# Altium integrated library Microchip PIC16 Part 1.IntLib: 1800 symbols (part 54 of 93)
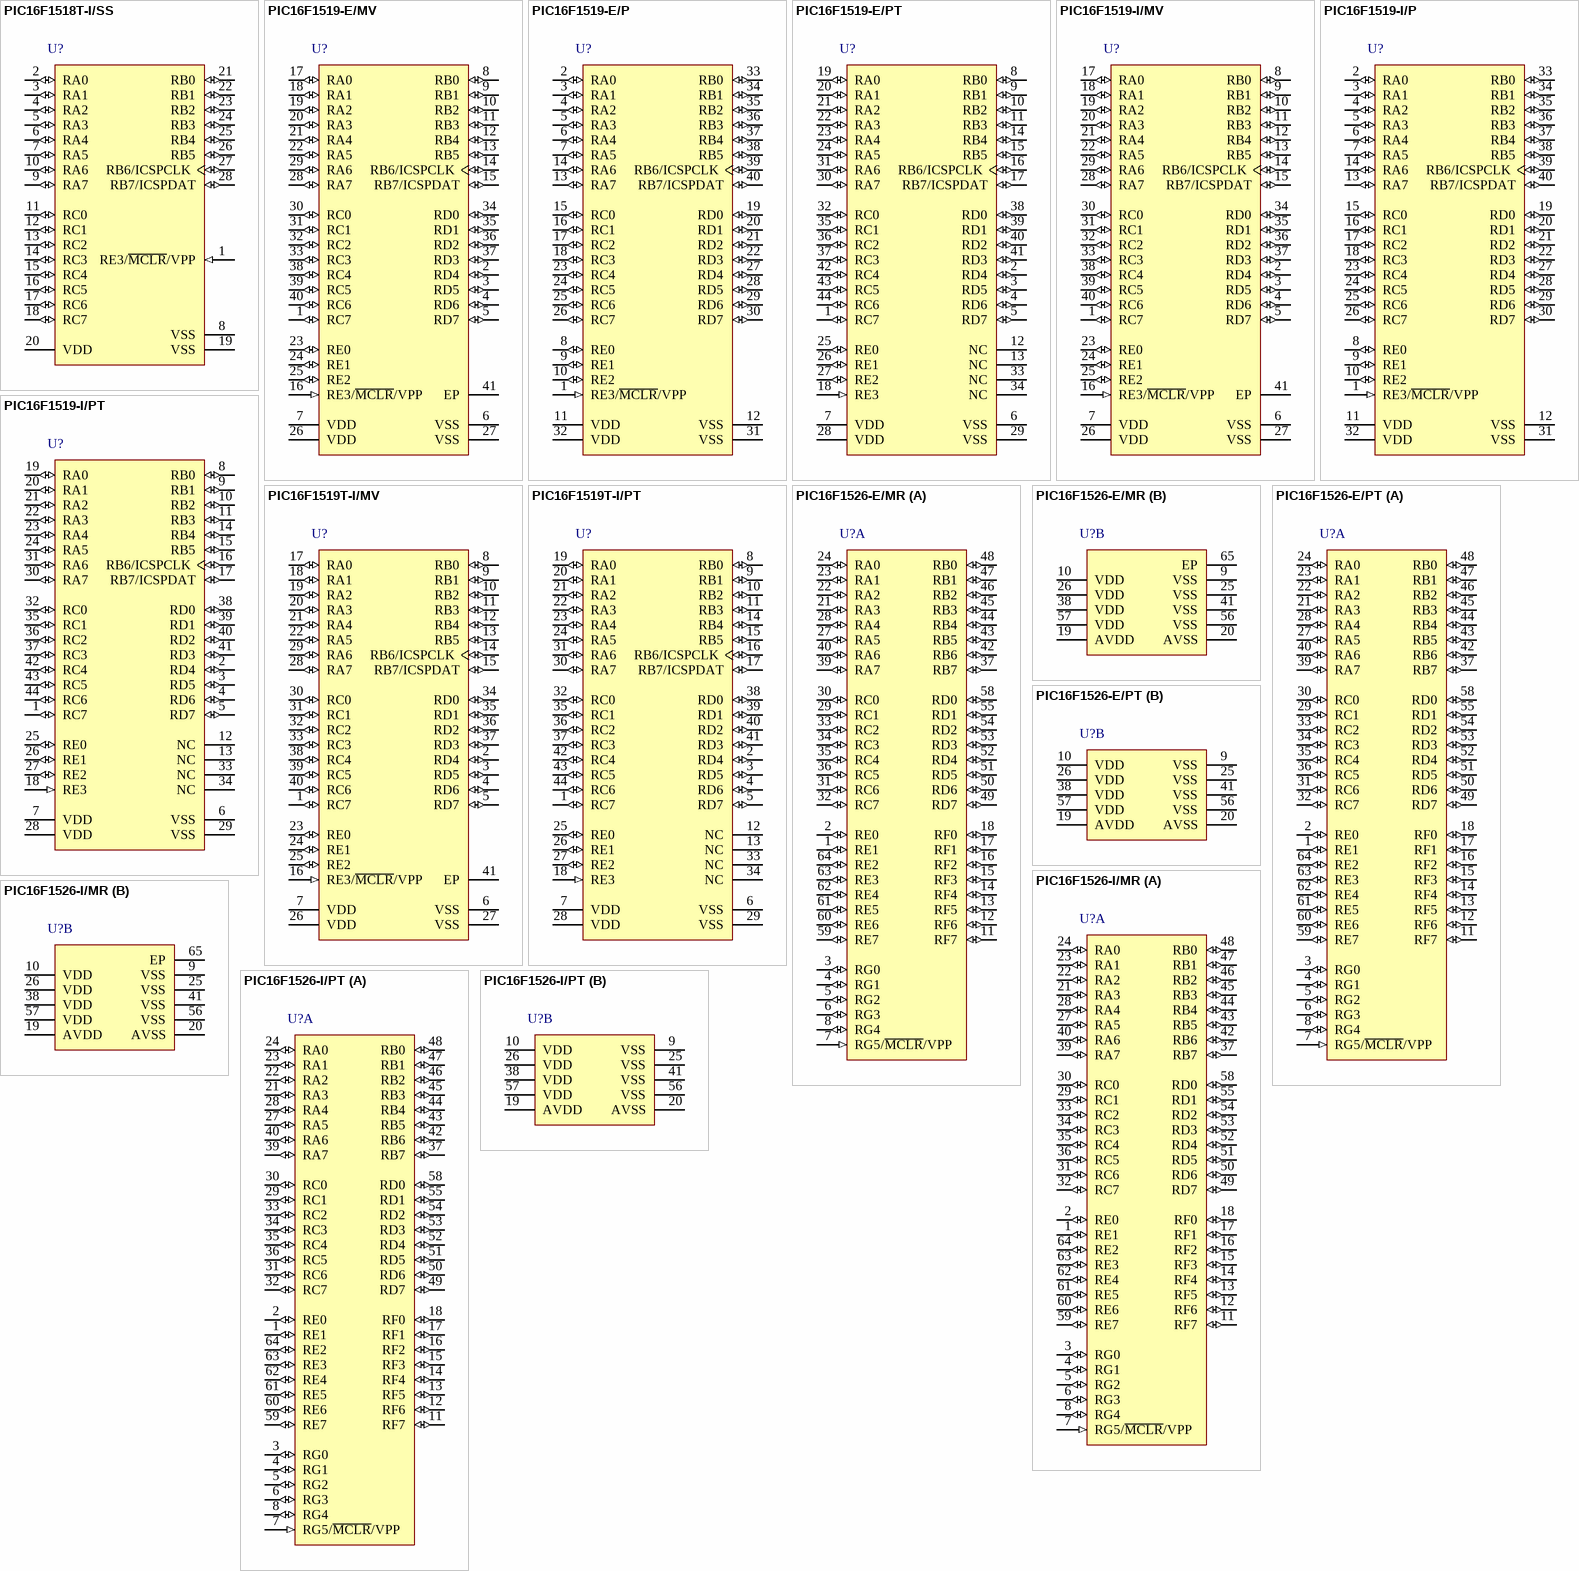
[diagram p152: symbols PIC16F1518T-I/SS to PIC16F1526-I/PT]

## PIC16F1519-I/MV
designator U?
Flash Microcontroller with XLP Technology, 20 MHz, 35 I/O, -40 to 85 degC, 40-pin UQFN (MV40), Tube; Manufacturer: Microchip; PartNumber: PIC16F1519-I/MV; # of A/D Channels: 28; Digital Communication: 1 -A/E/USART, 1 -MSSP(SPI/I2C); I/O Pins: 35; Internal Oscillator: 16 MHz, 31 kHz; Max. CPU Speed MHz: 20; Operation Voltage Range: 2.3V - 5.5V; Program Memory KWords: 16; RAM: 1024; Timers: 2 - 8-bit, 1 - 16-bit; DatasheetVersion: Rev. C; PackageVersion: C04-156A, 04/2013; PackageReference: UQFN-MV40; PackageDescription: 40-Lead Plastic Ultra Thin Quad Flat, No Lead Package, Body 5 x 5 mm, Pitch 0.4 mm; Supplier 1: Digi-Key; Supplier Part Number 1: PIC16F1519-I/MV-ND; Supplier 2: Farnell; Supplier Part Number 2: 1898775; Supplier 3: Mouser; Supplier Part Number 3: 579-PIC16F1519-I/MV; Memory Type: Flash; Packing: TUBE; Program Memory KBytes: 28; RoHS: TRUE; Mounting Technology: Surface Mount; ComponentLink1Description: Datasheet; ComponentLink1URL: http://ww1.microchip.com/downloads/en/DeviceDoc/41452C.pdf; ComponentLink2Description: Package Specification; ComponentLink2URL: http://www.microchip.com/stellent/groups/techpub_sg/documents/packagingspec/en012702.pdf; ComponentLink3Description: URL Link1; ComponentLink3URL: Product URL:http://www.microchip.com/datasheet/PIC16F1519
footprint MCHP-UQFN-MV40_N (QFN, 40-Leads, Body 5x5mm, Pitch 0.4mm, Thermal Pad 3.7x3.7mm, IPC Medium Density)
footprint MCHP-UQFN-MV40_L (QFN, 40-Leads, Body 5x5mm, Pitch 0.4mm, Thermal Pad 3.7x3.7mm, IPC High Density)
footprint MCHP-UQFN-MV40_M (QFN, 40-Leads, Body 5x5mm, Pitch 0.4mm, Thermal Pad 3.7x3.7mm, IPC Low Density)
pins: 1 RC7 (io), 2 RD4 (io), 3 RD5 (io), 4 RD6 (io), 5 RD7 (io), 6 VSS (power) "Ground reference.", 7 VDD (power) "Positive supply.", 8 RB0 (io), 9 RB1 (io), 10 RB2 (io), 11 RB3 (io), 12 RB4 (io), 13 RB5 (io), 14 RB6/ICSPCLK (io), 15 RB7/ICSPDAT (io), 16 RE3/~{MCLR}/VPP (in), 17 RA0 (io), 18 RA1 (io), 19 RA2 (io), 20 RA3 (io), 21 RA4 (io), 22 RA5 (io), 23 RE0 (io), 24 RE1 (io), 25 RE2 (io), 26 VDD (power) "Positive supply.", 27 VSS (power) "Ground reference.", 28 RA7 (io), 29 RA6 (io), 30 RC0 (io), 31 RC1 (io), 32 RC2 (io), 33 RC3 (io), 34 RD0 (io), 35 RD1 (io), 36 RD2 (io), 37 RD3 (io), 38 RC4 (io), 39 RC5 (io), 40 RC6 (io), 41 EP

## PIC16F1519-I/P
designator U?
Flash Microcontroller with XLP Technology, 20 MHz, 35 I/O, -40 to 85 degC, 40-pin PDIP (P40), Tube; Manufacturer: Microchip; PartNumber: PIC16F1519-I/P; # of A/D Channels: 28; Digital Communication: 1 -A/E/USART, 1 -MSSP(SPI/I2C); I/O Pins: 35; Internal Oscillator: 16 MHz, 31 kHz; Max. CPU Speed MHz: 20; Operation Voltage Range: 2.3V - 5.5V; Program Memory KWords: 16; RAM: 1024; Timers: 2 - 8-bit, 1 - 16-bit; DatasheetVersion: Rev. C; PackageVersion: C04-016B, 04/2013; PackageReference: PDIP-P40; PackageDescription: 40-Lead Plastic Dual In-Line Package, Body 51.75 x 13.53 mm, Pitch 2.54 mm; Supplier 1: Digi-Key; Supplier Part Number 1: PIC16F1519-I/P-ND; Supplier 2: Farnell; Supplier Part Number 2: 1909425; Supplier 3: Newark; Supplier Part Number 3: 91R3018; Supplier 4: Mouser; Supplier Part Number 4: 579-PIC16F1519-I/P; Memory Type: Flash; Packing: TUBE; Program Memory KBytes: 28; RoHS: TRUE; Mounting Technology: Through Hole; ComponentLink1Description: Datasheet; ComponentLink1URL: http://ww1.microchip.com/downloads/en/DeviceDoc/41452C.pdf; ComponentLink2Description: Package Specification; ComponentLink2URL: http://www.microchip.com/stellent/groups/techpub_sg/documents/packagingspec/en012702.pdf; ComponentLink3Description: URL Link1; ComponentLink3URL: Product URL:http://www.microchip.com/datasheet/PIC16F1519
footprint MCHP-PDIP-P40 (PDIP, 40-Leads, Body 51.75x13.53mm, Pitch 2.54mm)
pins: 1 RE3/~{MCLR}/VPP (in), 2 RA0 (io), 3 RA1 (io), 4 RA2 (io), 5 RA3 (io), 6 RA4 (io), 7 RA5 (io), 8 RE0 (io), 9 RE1 (io), 10 RE2 (io), 11 VDD (power) "Positive supply.", 12 VSS (power) "Ground reference.", 13 RA7 (io), 14 RA6 (io), 15 RC0 (io), 16 RC1 (io), 17 RC2 (io), 18 RC3 (io), 19 RD0 (io), 20 RD1 (io), 21 RD2 (io), 22 RD3 (io), 23 RC4 (io), 24 RC5 (io), 25 RC6 (io), 26 RC7 (io), 27 RD4 (io), 28 RD5 (io), 29 RD6 (io), 30 RD7 (io), 31 VSS (power) "Ground reference.", 32 VDD (power) "Positive supply.", 33 RB0 (io), 34 RB1 (io), 35 RB2 (io), 36 RB3 (io), 37 RB4 (io), 38 RB5 (io), 39 RB6/ICSPCLK (io), 40 RB7/ICSPDAT (io)

## PIC16F1519-I/PT
designator U?
Flash Microcontroller with XLP Technology, 20 MHz, 35 I/O, -40 to 85 degC, 44-pin TQFP (PT44), Tray; Manufacturer: Microchip; PartNumber: PIC16F1519-I/PT; # of A/D Channels: 28; Digital Communication: 1 -A/E/USART, 1 -MSSP(SPI/I2C); I/O Pins: 35; Internal Oscillator: 16 MHz, 31 kHz; Max. CPU Speed MHz: 20; Operation Voltage Range: 2.3V - 5.5V; Program Memory KWords: 16; RAM: 1024; Timers: 2 - 8-bit, 1 - 16-bit; DatasheetVersion: Rev. C; PackageVersion: C04-076B, 12/2012; PackageReference: TQFP-PT44; PackageDescription: 44-Lead Plastic Thin Quad Flatpack, 10 x 10 mm Body, 0.8 mm Pitch; Supplier 1: Digi-Key; Supplier Part Number 1: PIC16F1519-I/PT-ND; Supplier 2: Farnell; Supplier Part Number 2: 1898776MPKG; Supplier 3: Farnell; Supplier Part Number 3: 1898776; Supplier 4: Newark; Supplier Part Number 4: 91R3019; Supplier 5: Mouser; Supplier Part Number 5: 579-PIC16F1519-I/PT; Memory Type: Flash; Packing: TRAY; Program Memory KBytes: 28; RoHS: TRUE; Mounting Technology: Surface Mount; ComponentLink1Description: Datasheet; ComponentLink1URL: http://ww1.microchip.com/downloads/en/DeviceDoc/41452C.pdf; ComponentLink2Description: Package Specification; ComponentLink2URL: http://www.microchip.com/stellent/groups/techpub_sg/documents/packagingspec/en012702.pdf; ComponentLink3Description: URL Link1; ComponentLink3URL: Product URL:http://www.microchip.com/datasheet/PIC16F1519
footprint MCHP-TQFP-PT44_N (QFN, 44-Leads, Body 10x10mm, Pitch 0.8mm, IPC Medium Density)
footprint MCHP-TQFP-PT44_L (QFN, 44-Leads, Body 10x10mm, Pitch 0.8mm, IPC High Density)
footprint MCHP-TQFP-PT44_M (QFN, 44-Leads, Body 10x10mm, Pitch 0.8mm, IPC Low Density)
pins: 1 RC7 (io), 2 RD4 (io), 3 RD5 (io), 4 RD6 (io), 5 RD7 (io), 6 VSS (power) "Ground reference.", 7 VDD (power) "Positive supply.", 8 RB0 (io), 9 RB1 (io), 10 RB2 (io), 11 RB3 (io), 12 NC, 13 NC, 14 RB4 (io), 15 RB5 (io), 16 RB6/ICSPCLK (io), 17 RB7/ICSPDAT (io), 18 RE3 (in), 19 RA0 (io), 20 RA1 (io), 21 RA2 (io), 22 RA3 (io), 23 RA4 (io), 24 RA5 (io), 25 RE0 (io), 26 RE1 (io), 27 RE2 (io), 28 VDD (power) "Positive supply.", 29 VSS (power) "Ground reference.", 30 RA7 (io), 31 RA6 (io), 32 RC0 (io), 33 NC, 34 NC, 35 RC1 (io), 36 RC2 (io), 37 RC3 (io), 38 RD0 (io), 39 RD1 (io), 40 RD2 (io), 41 RD3 (io), 42 RC4 (io), 43 RC5 (io), 44 RC6 (io)

## PIC16F1519T-I/MV
designator U?
Flash Microcontroller with XLP Technology, 20 MHz, 35 I/O, -40 to 85 degC, 40-pin UQFN (MV40), Tape and Reel; Manufacturer: Microchip; PartNumber: PIC16F1519T-I/MV; # of A/D Channels: 28; Digital Communication: 1 -A/E/USART, 1 -MSSP(SPI/I2C); I/O Pins: 35; Internal Oscillator: 16 MHz, 31 kHz; Max. CPU Speed MHz: 20; Operation Voltage Range: 2.3V - 5.5V; Packing: T/R; Program Memory KWords: 16; RAM: 1024; Timers: 2 - 8-bit, 1 - 16-bit; DatasheetVersion: Rev. C; PackageVersion: C04-156A, 04/2013; PackageReference: UQFN-MV40; PackageDescription: 40-Lead Plastic Ultra Thin Quad Flat, No Lead Package, Body 5 x 5 mm, Pitch 0.4 mm; Supplier 1: Digi-Key; Supplier Part Number 1: PIC16F1519T-I/MV-ND; Supplier 2: Mouser; Supplier Part Number 2: 579-PIC16F1519T-I/MV; Memory Type: Flash; Program Memory KBytes: 28; RoHS: TRUE; Mounting Technology: Surface Mount; ComponentLink1Description: Datasheet; ComponentLink1URL: http://ww1.microchip.com/downloads/en/DeviceDoc/41452C.pdf; ComponentLink2Description: Package Specification; ComponentLink2URL: http://www.microchip.com/stellent/groups/techpub_sg/documents/packagingspec/en012702.pdf; ComponentLink3Description: URL Link1; ComponentLink3URL: Product URL:http://www.microchip.com/datasheet/PIC16F1519
footprint MCHP-UQFN-MV40_N (QFN, 40-Leads, Body 5x5mm, Pitch 0.4mm, Thermal Pad 3.7x3.7mm, IPC Medium Density)
footprint MCHP-UQFN-MV40_L (QFN, 40-Leads, Body 5x5mm, Pitch 0.4mm, Thermal Pad 3.7x3.7mm, IPC High Density)
footprint MCHP-UQFN-MV40_M (QFN, 40-Leads, Body 5x5mm, Pitch 0.4mm, Thermal Pad 3.7x3.7mm, IPC Low Density)
pins: 1 RC7 (io), 2 RD4 (io), 3 RD5 (io), 4 RD6 (io), 5 RD7 (io), 6 VSS (power) "Ground reference.", 7 VDD (power) "Positive supply.", 8 RB0 (io), 9 RB1 (io), 10 RB2 (io), 11 RB3 (io), 12 RB4 (io), 13 RB5 (io), 14 RB6/ICSPCLK (io), 15 RB7/ICSPDAT (io), 16 RE3/~{MCLR}/VPP (in), 17 RA0 (io), 18 RA1 (io), 19 RA2 (io), 20 RA3 (io), 21 RA4 (io), 22 RA5 (io), 23 RE0 (io), 24 RE1 (io), 25 RE2 (io), 26 VDD (power) "Positive supply.", 27 VSS (power) "Ground reference.", 28 RA7 (io), 29 RA6 (io), 30 RC0 (io), 31 RC1 (io), 32 RC2 (io), 33 RC3 (io), 34 RD0 (io), 35 RD1 (io), 36 RD2 (io), 37 RD3 (io), 38 RC4 (io), 39 RC5 (io), 40 RC6 (io), 41 EP

## PIC16F1519T-I/PT
designator U?
Flash Microcontroller with XLP Technology, 20 MHz, 35 I/O, -40 to 85 degC, 44-pin TQFP (PT44), Tape and Reel; Manufacturer: Microchip; PartNumber: PIC16F1519T-I/PT; # of A/D Channels: 28; Digital Communication: 1 -A/E/USART, 1 -MSSP(SPI/I2C); I/O Pins: 35; Internal Oscillator: 16 MHz, 31 kHz; Max. CPU Speed MHz: 20; Operation Voltage Range: 2.3V - 5.5V; Packing: T/R; Program Memory KWords: 16; RAM: 1024; Timers: 2 - 8-bit, 1 - 16-bit; DatasheetVersion: Rev. C; PackageVersion: C04-076B, 12/2012; PackageReference: TQFP-PT44; PackageDescription: 44-Lead Plastic Thin Quad Flatpack, 10 x 10 mm Body, 0.8 mm Pitch; Supplier 1: Digi-Key; Supplier Part Number 1: PIC16F1519T-I/PT-ND; Supplier 2: Mouser; Supplier Part Number 2: 579-PIC16F1519T-I/PT; Memory Type: Flash; Program Memory KBytes: 28; RoHS: TRUE; Mounting Technology: Surface Mount; ComponentLink1Description: Datasheet; ComponentLink1URL: http://ww1.microchip.com/downloads/en/DeviceDoc/41452C.pdf; ComponentLink2Description: Package Specification; ComponentLink2URL: http://www.microchip.com/stellent/groups/techpub_sg/documents/packagingspec/en012702.pdf; ComponentLink3Description: URL Link1; ComponentLink3URL: Product URL:http://www.microchip.com/datasheet/PIC16F1519
footprint MCHP-TQFP-PT44_N (QFN, 44-Leads, Body 10x10mm, Pitch 0.8mm, IPC Medium Density)
footprint MCHP-TQFP-PT44_L (QFN, 44-Leads, Body 10x10mm, Pitch 0.8mm, IPC High Density)
footprint MCHP-TQFP-PT44_M (QFN, 44-Leads, Body 10x10mm, Pitch 0.8mm, IPC Low Density)
pins: 1 RC7 (io), 2 RD4 (io), 3 RD5 (io), 4 RD6 (io), 5 RD7 (io), 6 VSS (power) "Ground reference.", 7 VDD (power) "Positive supply.", 8 RB0 (io), 9 RB1 (io), 10 RB2 (io), 11 RB3 (io), 12 NC, 13 NC, 14 RB4 (io), 15 RB5 (io), 16 RB6/ICSPCLK (io), 17 RB7/ICSPDAT (io), 18 RE3 (in), 19 RA0 (io), 20 RA1 (io), 21 RA2 (io), 22 RA3 (io), 23 RA4 (io), 24 RA5 (io), 25 RE0 (io), 26 RE1 (io), 27 RE2 (io), 28 VDD (power) "Positive supply.", 29 VSS (power) "Ground reference.", 30 RA7 (io), 31 RA6 (io), 32 RC0 (io), 33 NC, 34 NC, 35 RC1 (io), 36 RC2 (io), 37 RC3 (io), 38 RD0 (io), 39 RD1 (io), 40 RD2 (io), 41 RD3 (io), 42 RC4 (io), 43 RC5 (io), 44 RC6 (io)

## PIC16F1526-E/MR
designator U?
Flash Microcontroller with XLP Technology, 20 MHz, 53 I/O, -40 to 125 degC, 64-pin QFN (MR64), Tube; Manufacturer: Microchip; PartNumber: PIC16F1526-E/MR; # of A/D Channels: 30; Digital Communication: 2 -A/E/USART, 2 -MSSP(SPI/I2C); I/O Pins: 53; Internal Oscillator: 16 MHz, 31 MHz; Max. CPU Speed MHz: 20; Operation Voltage Range: 2.3V - 5.5V; Program Memory KBytes: 14; Program Memory KWords: 8; RAM: 768; Timers: 6 - 8-bit, 3 - 16-bit, 0 - 32-bit; DatasheetVersion: Rev. C; PackageVersion: C04-213A, 04/2013; PackageReference: QFN-MR64; PackageDescription: 64-Lead Plastic Quad Flat, No Lead Package, Body 9 x 9 mm, Pitch 0.5 mm; Supplier 1: Digi-Key; Supplier Part Number 1: PIC16F1526-E/MR-ND; Supplier 2: Mouser; Supplier Part Number 2: 579-PIC16F1526-E/MR; Memory Type: Flash; Packing: TUBE; RoHS: TRUE; Mounting Technology: Surface Mount; ComponentLink1Description: Datasheet; ComponentLink1URL: http://ww1.microchip.com/downloads/en/DeviceDoc/41458C.pdf; ComponentLink2Description: Package Specification; ComponentLink2URL: http://www.microchip.com/stellent/groups/techpub_sg/documents/packagingspec/en012702.pdf; ComponentLink3Description: URL Link1; ComponentLink3URL: Product URL:http://www.microchip.com/datasheet/PIC16F1526
footprint MCHP-QFN-MR64-7700X7700TP_N (QFN, 64-Leads, Body 9x9mm, Pitch 0.5mm, Thermal Pad 7.7x7.7mm, IPC Medium Density)
footprint MCHP-QFN-MR64-7700X7700TP_L (QFN, 64-Leads, Body 9x9mm, Pitch 0.5mm, Thermal Pad 7.7x7.7mm, IPC High Density)
footprint MCHP-QFN-MR64-7700X7700TP_M (QFN, 64-Leads, Body 9x9mm, Pitch 0.5mm, Thermal Pad 7.7x7.7mm, IPC Low Density)
part A pins: 1 RE1 (io), 2 RE0 (io), 3 RG0 (io), 4 RG1 (io), 5 RG2 (io), 6 RG3 (io), 7 RG5/~{MCLR}/VPP (in), 8 RG4 (io), 11 RF7 (io), 12 RF6 (io), 13 RF5 (io), 14 RF4 (io), 15 RF3 (io), 16 RF2 (io), 17 RF1 (io), 18 RF0 (io), 21 RA3 (io), 22 RA2 (io), 23 RA1 (io), 24 RA0 (io), 27 RA5 (io), 28 RA4 (io), 29 RC1 (io), 30 RC0 (io), 31 RC6 (io), 32 RC7 (io), 33 RC2 (io), 34 RC3 (io), 35 RC4 (io), 36 RC5 (io), 37 RB7 (io), 39 RA7 (io), 40 RA6 (io), 42 RB6 (io), 43 RB5 (io), 44 RB4 (io), 45 RB3 (io), 46 RB2 (io), 47 RB1 (io), 48 RB0 (io), 49 RD7 (io), 50 RD6 (io), 51 RD5 (io), 52 RD4 (io), 53 RD3 (io), 54 RD2 (io), 55 RD1 (io), 58 RD0 (io), 59 RE7 (io), 60 RE6 (io), 61 RE5 (io), 62 RE4 (io), 63 RE3 (io), 64 RE2 (io)
part B pins: 9 VSS (power) "Ground reference.", 10 VDD (power) "Positive supply.", 19 AVDD (power) "Analog positive supply.", 20 AVSS (power) "Analog ground reference.", 25 VSS (power) "Ground reference.", 26 VDD (power) "Positive supply.", 38 VDD (power) "Positive supply.", 41 VSS (power) "Ground reference.", 56 VSS (power) "Ground reference.", 57 VDD (power) "Positive supply.", 65 EP

## PIC16F1526-E/PT
designator U?
Flash Microcontroller with XLP Technology, 20 MHz, 53 I/O, -40 to 125 degC, 64-pin TQFP (PT64), Tray; Manufacturer: Microchip; PartNumber: PIC16F1526-E/PT; # of A/D Channels: 30; Digital Communication: 2 -A/E/USART, 2 -MSSP(SPI/I2C); I/O Pins: 53; Internal Oscillator: 16 MHz, 31 MHz; Max. CPU Speed MHz: 20; Operation Voltage Range: 2.3V - 5.5V; Program Memory KBytes: 14; Program Memory KWords: 8; RAM: 768; Timers: 6 - 8-bit, 3 - 16-bit, 0 - 32-bit; DatasheetVersion: Rev. C; PackageVersion: C04-085B, 12/2012; PackageReference: TQFP-PT64; PackageDescription: 64-Lead Plastic Thin Quad FlatPack, 10 x 10 mm Body, 0.5 mm Pitch; Supplier 1: Digi-Key; Supplier Part Number 1: PIC16F1526-E/PT-ND; Supplier 2: Mouser; Supplier Part Number 2: 579-PIC16F1526-E/PT; Memory Type: Flash; Packing: TRAY; RoHS: TRUE; Mounting Technology: Surface Mount; ComponentLink1Description: Datasheet; ComponentLink1URL: http://ww1.microchip.com/downloads/en/DeviceDoc/41458C.pdf; ComponentLink2Description: Package Specification; ComponentLink2URL: http://www.microchip.com/stellent/groups/techpub_sg/documents/packagingspec/en012702.pdf; ComponentLink3Description: URL Link1; ComponentLink3URL: Product URL:http://www.microchip.com/datasheet/PIC16F1526
footprint MCHP-TQFP-PT64_N (TQFP, 64-Leads, Body 10x10mm, Pitch 0.5mm, IPC Medium Density)
footprint MCHP-TQFP-PT64_L (TQFP, 64-Leads, Body 10x10mm, Pitch 0.5mm, IPC High Density)
footprint MCHP-TQFP-PT64_M (TQFP, 64-Leads, Body 10x10mm, Pitch 0.5mm, IPC Low Density)
part A pins: 1 RE1 (io), 2 RE0 (io), 3 RG0 (io), 4 RG1 (io), 5 RG2 (io), 6 RG3 (io), 7 RG5/~{MCLR}/VPP (in), 8 RG4 (io), 11 RF7 (io), 12 RF6 (io), 13 RF5 (io), 14 RF4 (io), 15 RF3 (io), 16 RF2 (io), 17 RF1 (io), 18 RF0 (io), 21 RA3 (io), 22 RA2 (io), 23 RA1 (io), 24 RA0 (io), 27 RA5 (io), 28 RA4 (io), 29 RC1 (io), 30 RC0 (io), 31 RC6 (io), 32 RC7 (io), 33 RC2 (io), 34 RC3 (io), 35 RC4 (io), 36 RC5 (io), 37 RB7 (io), 39 RA7 (io), 40 RA6 (io), 42 RB6 (io), 43 RB5 (io), 44 RB4 (io), 45 RB3 (io), 46 RB2 (io), 47 RB1 (io), 48 RB0 (io), 49 RD7 (io), 50 RD6 (io), 51 RD5 (io), 52 RD4 (io), 53 RD3 (io), 54 RD2 (io), 55 RD1 (io), 58 RD0 (io), 59 RE7 (io), 60 RE6 (io), 61 RE5 (io), 62 RE4 (io), 63 RE3 (io), 64 RE2 (io)
part B pins: 9 VSS (power) "Ground reference.", 10 VDD (power) "Positive supply.", 19 AVDD (power) "Analog positive supply.", 20 AVSS (power) "Analog ground reference.", 25 VSS (power) "Ground reference.", 26 VDD (power) "Positive supply.", 38 VDD (power) "Positive supply.", 41 VSS (power) "Ground reference.", 56 VSS (power) "Ground reference.", 57 VDD (power) "Positive supply."

## PIC16F1526-I/MR
designator U?
Flash Microcontroller with XLP Technology, 20 MHz, 53 I/O, -40 to 85 degC, 64-pin QFN (MR64), Tube; Manufacturer: Microchip; PartNumber: PIC16F1526-I/MR; # of A/D Channels: 30; Digital Communication: 2 -A/E/USART, 2 -MSSP(SPI/I2C); I/O Pins: 53; Internal Oscillator: 16 MHz, 31 MHz; Max. CPU Speed MHz: 20; Operation Voltage Range: 2.3V - 5.5V; Program Memory KBytes: 14; Program Memory KWords: 8; RAM: 768; Timers: 6 - 8-bit, 3 - 16-bit, 0 - 32-bit; DatasheetVersion: Rev. C; PackageVersion: C04-213A, 04/2013; PackageReference: QFN-MR64; PackageDescription: 64-Lead Plastic Quad Flat, No Lead Package, Body 9 x 9 mm, Pitch 0.5 mm; Supplier 1: Digi-Key; Supplier Part Number 1: PIC16F1526-I/MR-ND; Supplier 2: Farnell; Supplier Part Number 2: 1909407; Supplier 3: Mouser; Supplier Part Number 3: 579-PIC16F1526-I/MR; Memory Type: Flash; Packing: TUBE; RoHS: TRUE; Mounting Technology: Surface Mount; ComponentLink1Description: Datasheet; ComponentLink1URL: http://ww1.microchip.com/downloads/en/DeviceDoc/41458C.pdf; ComponentLink2Description: Package Specification; ComponentLink2URL: http://www.microchip.com/stellent/groups/techpub_sg/documents/packagingspec/en012702.pdf; ComponentLink3Description: URL Link1; ComponentLink3URL: Product URL:http://www.microchip.com/datasheet/PIC16F1526
footprint MCHP-QFN-MR64-7700X7700TP_N (QFN, 64-Leads, Body 9x9mm, Pitch 0.5mm, Thermal Pad 7.7x7.7mm, IPC Medium Density)
footprint MCHP-QFN-MR64-7700X7700TP_L (QFN, 64-Leads, Body 9x9mm, Pitch 0.5mm, Thermal Pad 7.7x7.7mm, IPC High Density)
footprint MCHP-QFN-MR64-7700X7700TP_M (QFN, 64-Leads, Body 9x9mm, Pitch 0.5mm, Thermal Pad 7.7x7.7mm, IPC Low Density)
part A pins: 1 RE1 (io), 2 RE0 (io), 3 RG0 (io), 4 RG1 (io), 5 RG2 (io), 6 RG3 (io), 7 RG5/~{MCLR}/VPP (in), 8 RG4 (io), 11 RF7 (io), 12 RF6 (io), 13 RF5 (io), 14 RF4 (io), 15 RF3 (io), 16 RF2 (io), 17 RF1 (io), 18 RF0 (io), 21 RA3 (io), 22 RA2 (io), 23 RA1 (io), 24 RA0 (io), 27 RA5 (io), 28 RA4 (io), 29 RC1 (io), 30 RC0 (io), 31 RC6 (io), 32 RC7 (io), 33 RC2 (io), 34 RC3 (io), 35 RC4 (io), 36 RC5 (io), 37 RB7 (io), 39 RA7 (io), 40 RA6 (io), 42 RB6 (io), 43 RB5 (io), 44 RB4 (io), 45 RB3 (io), 46 RB2 (io), 47 RB1 (io), 48 RB0 (io), 49 RD7 (io), 50 RD6 (io), 51 RD5 (io), 52 RD4 (io), 53 RD3 (io), 54 RD2 (io), 55 RD1 (io), 58 RD0 (io), 59 RE7 (io), 60 RE6 (io), 61 RE5 (io), 62 RE4 (io), 63 RE3 (io), 64 RE2 (io)
part B pins: 9 VSS (power) "Ground reference.", 10 VDD (power) "Positive supply.", 19 AVDD (power) "Analog positive supply.", 20 AVSS (power) "Analog ground reference.", 25 VSS (power) "Ground reference.", 26 VDD (power) "Positive supply.", 38 VDD (power) "Positive supply.", 41 VSS (power) "Ground reference.", 56 VSS (power) "Ground reference.", 57 VDD (power) "Positive supply.", 65 EP

## PIC16F1526-I/PT
designator U?
Flash Microcontroller with XLP Technology, 20 MHz, 53 I/O, -40 to 85 degC, 64-pin TQFP (PT64), Tray; Manufacturer: Microchip; PartNumber: PIC16F1526-I/PT; # of A/D Channels: 30; Digital Communication: 2 -A/E/USART, 2 -MSSP(SPI/I2C); I/O Pins: 53; Internal Oscillator: 16 MHz, 31 MHz; Max. CPU Speed MHz: 20; Operation Voltage Range: 2.3V - 5.5V; Program Memory KBytes: 14; Program Memory KWords: 8; RAM: 768; Timers: 6 - 8-bit, 3 - 16-bit, 0 - 32-bit; DatasheetVersion: Rev. C; PackageVersion: C04-085B, 12/2012; PackageReference: TQFP-PT64; PackageDescription: 64-Lead Plastic Thin Quad FlatPack, 10 x 10 mm Body, 0.5 mm Pitch; Supplier 1: Digi-Key; Supplier Part Number 1: PIC16F1526-I/PT-ND; Supplier 2: Farnell; Supplier Part Number 2: 1909408; Supplier 3: Farnell; Supplier Part Number 3: 1909408MPKG; Supplier 4: Newark; Supplier Part Number 4: 13T4720; Supplier 5: Mouser; Supplier Part Number 5: 579-PIC16F1526-I/PT; Memory Type: Flash; Packing: TRAY; RoHS: TRUE; Mounting Technology: Surface Mount; ComponentLink1Description: Datasheet; ComponentLink1URL: http://ww1.microchip.com/downloads/en/DeviceDoc/41458C.pdf; ComponentLink2Description: Package Specification; ComponentLink2URL: http://www.microchip.com/stellent/groups/techpub_sg/documents/packagingspec/en012702.pdf; ComponentLink3Description: URL Link1; ComponentLink3URL: Product URL:http://www.microchip.com/datasheet/PIC16F1526
footprint MCHP-TQFP-PT64_N (TQFP, 64-Leads, Body 10x10mm, Pitch 0.5mm, IPC Medium Density)
footprint MCHP-TQFP-PT64_L (TQFP, 64-Leads, Body 10x10mm, Pitch 0.5mm, IPC High Density)
footprint MCHP-TQFP-PT64_M (TQFP, 64-Leads, Body 10x10mm, Pitch 0.5mm, IPC Low Density)
part A pins: 1 RE1 (io), 2 RE0 (io), 3 RG0 (io), 4 RG1 (io), 5 RG2 (io), 6 RG3 (io), 7 RG5/~{MCLR}/VPP (in), 8 RG4 (io), 11 RF7 (io), 12 RF6 (io), 13 RF5 (io), 14 RF4 (io), 15 RF3 (io), 16 RF2 (io), 17 RF1 (io), 18 RF0 (io), 21 RA3 (io), 22 RA2 (io), 23 RA1 (io), 24 RA0 (io), 27 RA5 (io), 28 RA4 (io), 29 RC1 (io), 30 RC0 (io), 31 RC6 (io), 32 RC7 (io), 33 RC2 (io), 34 RC3 (io), 35 RC4 (io), 36 RC5 (io), 37 RB7 (io), 39 RA7 (io), 40 RA6 (io), 42 RB6 (io), 43 RB5 (io), 44 RB4 (io), 45 RB3 (io), 46 RB2 (io), 47 RB1 (io), 48 RB0 (io), 49 RD7 (io), 50 RD6 (io), 51 RD5 (io), 52 RD4 (io), 53 RD3 (io), 54 RD2 (io), 55 RD1 (io), 58 RD0 (io), 59 RE7 (io), 60 RE6 (io), 61 RE5 (io), 62 RE4 (io), 63 RE3 (io), 64 RE2 (io)
part B pins: 9 VSS (power) "Ground reference.", 10 VDD (power) "Positive supply.", 19 AVDD (power) "Analog positive supply.", 20 AVSS (power) "Analog ground reference.", 25 VSS (power) "Ground reference.", 26 VDD (power) "Positive supply.", 38 VDD (power) "Positive supply.", 41 VSS (power) "Ground reference.", 56 VSS (power) "Ground reference.", 57 VDD (power) "Positive supply."

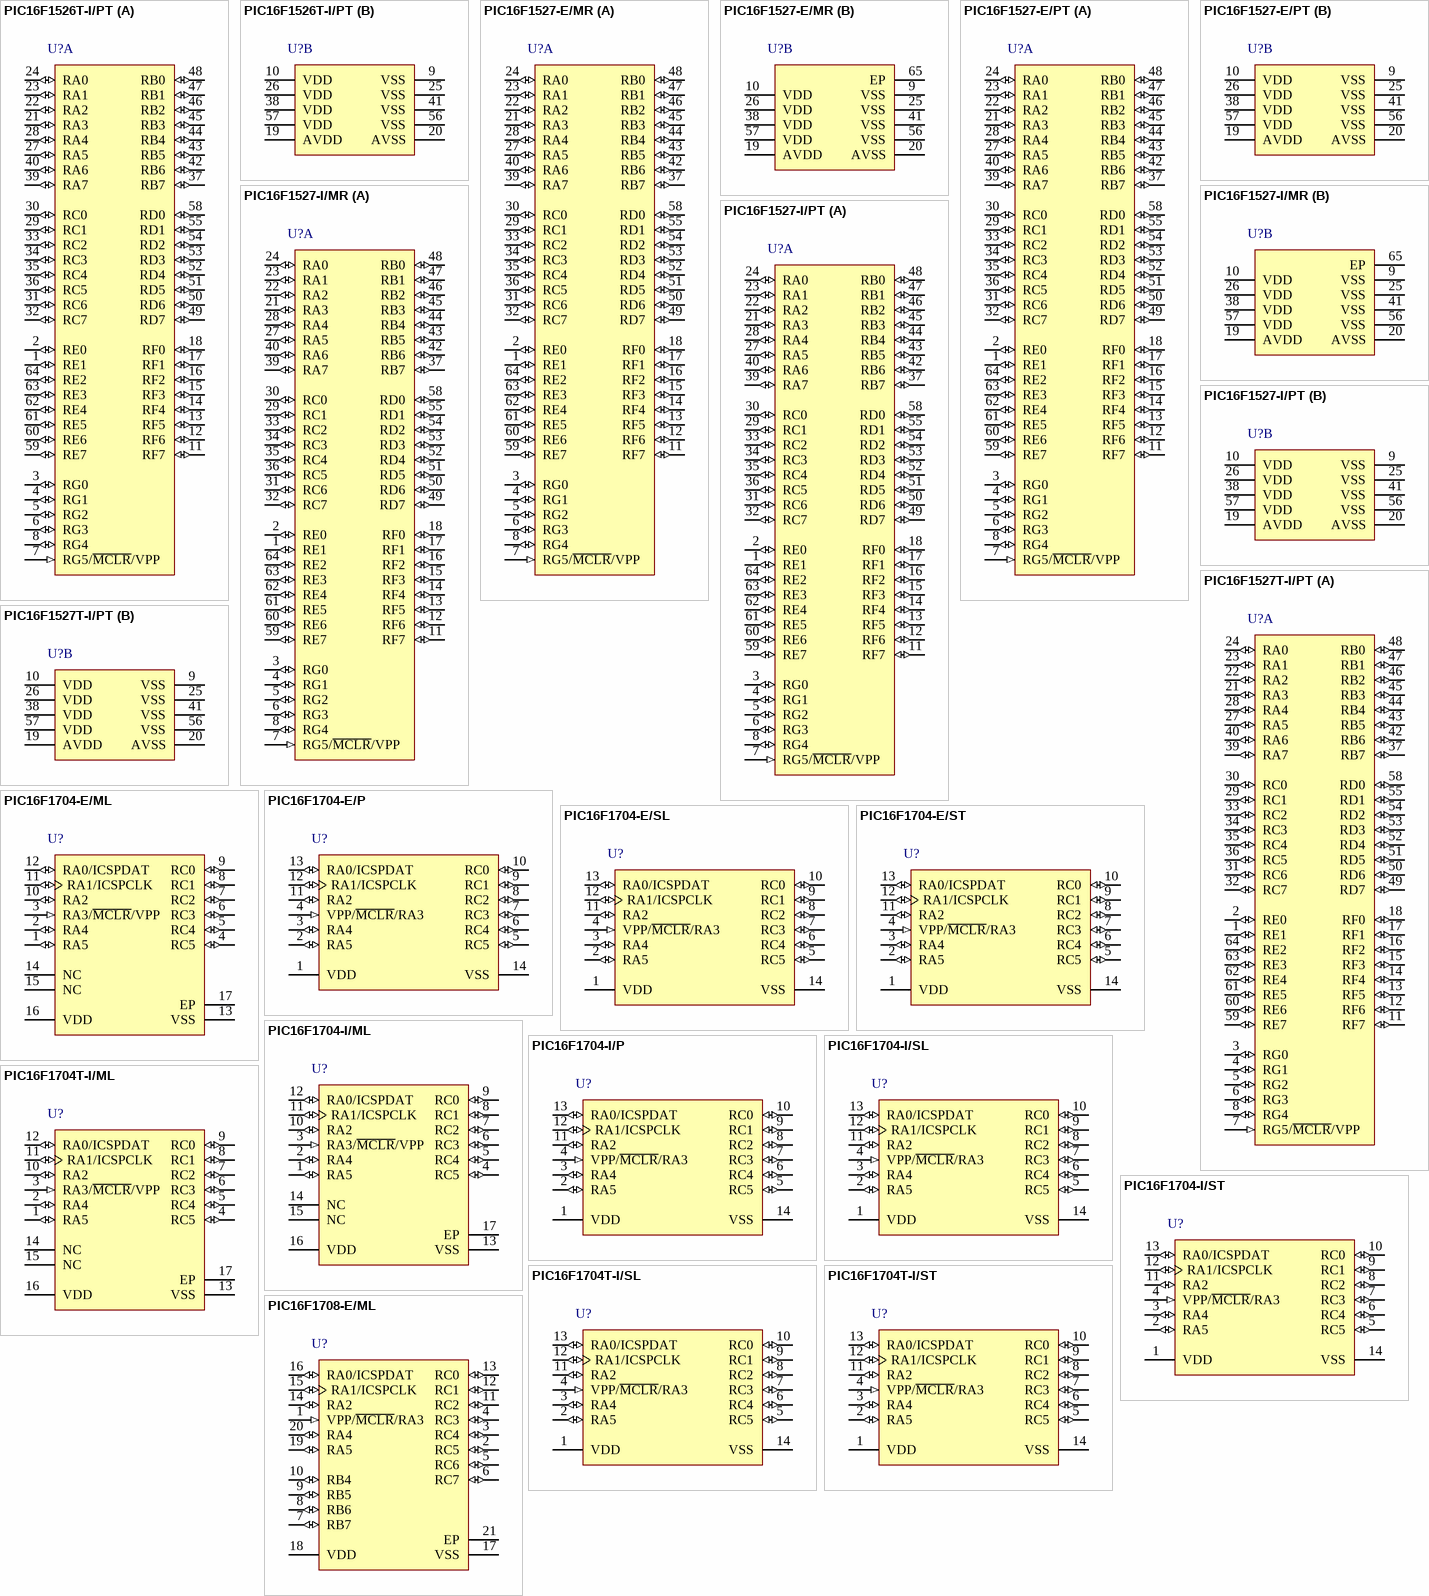
[diagram p54: symbols PIC16F1526T-I/PT to PIC16F1708-E/ML]

## PIC16F1526T-I/PT
designator U?
Flash Microcontroller with XLP Technology, 20 MHz, 53 I/O, -40 to 85 degC, 64-pin TQFP (PT64), Tape and Reel; Manufacturer: Microchip; PartNumber: PIC16F1526T-I/PT; # of A/D Channels: 30; Digital Communication: 2 -A/E/USART, 2 -MSSP(SPI/I2C); I/O Pins: 53; Internal Oscillator: 16 MHz, 31 MHz; Max. CPU Speed MHz: 20; Operation Voltage Range: 2.3V - 5.5V; Packing: T/R; Program Memory KBytes: 14; Program Memory KWords: 8; RAM: 768; Timers: 6 - 8-bit, 3 - 16-bit, 0 - 32-bit; DatasheetVersion: Rev. C; PackageVersion: C04-085B, 12/2012; PackageReference: TQFP-PT64; PackageDescription: 64-Lead Plastic Thin Quad FlatPack, 10 x 10 mm Body, 0.5 mm Pitch; Supplier 1: Digi-Key; Supplier Part Number 1: PIC16F1526T-I/PT-ND; Supplier 2: Mouser; Supplier Part Number 2: 579-PIC16F1526T-I/PT; Memory Type: Flash; RoHS: TRUE; Mounting Technology: Surface Mount; ComponentLink1Description: Datasheet; ComponentLink1URL: http://ww1.microchip.com/downloads/en/DeviceDoc/41458C.pdf; ComponentLink2Description: Package Specification; ComponentLink2URL: http://www.microchip.com/stellent/groups/techpub_sg/documents/packagingspec/en012702.pdf; ComponentLink3Description: URL Link1; ComponentLink3URL: Product URL:http://www.microchip.com/datasheet/PIC16F1526
footprint MCHP-TQFP-PT64_N (TQFP, 64-Leads, Body 10x10mm, Pitch 0.5mm, IPC Medium Density)
footprint MCHP-TQFP-PT64_L (TQFP, 64-Leads, Body 10x10mm, Pitch 0.5mm, IPC High Density)
footprint MCHP-TQFP-PT64_M (TQFP, 64-Leads, Body 10x10mm, Pitch 0.5mm, IPC Low Density)
part A pins: 1 RE1 (io), 2 RE0 (io), 3 RG0 (io), 4 RG1 (io), 5 RG2 (io), 6 RG3 (io), 7 RG5/~{MCLR}/VPP (in), 8 RG4 (io), 11 RF7 (io), 12 RF6 (io), 13 RF5 (io), 14 RF4 (io), 15 RF3 (io), 16 RF2 (io), 17 RF1 (io), 18 RF0 (io), 21 RA3 (io), 22 RA2 (io), 23 RA1 (io), 24 RA0 (io), 27 RA5 (io), 28 RA4 (io), 29 RC1 (io), 30 RC0 (io), 31 RC6 (io), 32 RC7 (io), 33 RC2 (io), 34 RC3 (io), 35 RC4 (io), 36 RC5 (io), 37 RB7 (io), 39 RA7 (io), 40 RA6 (io), 42 RB6 (io), 43 RB5 (io), 44 RB4 (io), 45 RB3 (io), 46 RB2 (io), 47 RB1 (io), 48 RB0 (io), 49 RD7 (io), 50 RD6 (io), 51 RD5 (io), 52 RD4 (io), 53 RD3 (io), 54 RD2 (io), 55 RD1 (io), 58 RD0 (io), 59 RE7 (io), 60 RE6 (io), 61 RE5 (io), 62 RE4 (io), 63 RE3 (io), 64 RE2 (io)
part B pins: 9 VSS (power) "Ground reference.", 10 VDD (power) "Positive supply.", 19 AVDD (power) "Analog positive supply.", 20 AVSS (power) "Analog ground reference.", 25 VSS (power) "Ground reference.", 26 VDD (power) "Positive supply.", 38 VDD (power) "Positive supply.", 41 VSS (power) "Ground reference.", 56 VSS (power) "Ground reference.", 57 VDD (power) "Positive supply."

## PIC16F1527-E/MR
designator U?
Flash Microcontroller with XLP Technology, 20 MHz, 53 I/O, -40 to 125 degC, 64-pin QFN (MR64), Tube; Manufacturer: Microchip; PartNumber: PIC16F1527-E/MR; # of A/D Channels: 30; Digital Communication: 2 -A/E/USART, 2 -MSSP(SPI/I2C); I/O Pins: 53; Internal Oscillator: 16 MHz, 31 MHz; Max. CPU Speed MHz: 20; Operation Voltage Range: 2.3V - 5.5V; Program Memory KBytes: 28; Program Memory KWords: 16; RAM: 1536; Timers: 6 - 8-bit, 3 - 16-bit; DatasheetVersion: Rev. C; PackageVersion: C04-213A, 04/2013; PackageReference: QFN-MR64; PackageDescription: 64-Lead Plastic Quad Flat, No Lead Package, Body 9 x 9 mm, Pitch 0.5 mm; Supplier 1: Digi-Key; Supplier Part Number 1: PIC16F1527-E/MR-ND; Supplier 2: Mouser; Supplier Part Number 2: 579-PIC16F1527-E/MR; Memory Type: Flash; Packing: TUBE; RoHS: TRUE; Mounting Technology: Surface Mount; ComponentLink1Description: Datasheet; ComponentLink1URL: http://ww1.microchip.com/downloads/en/DeviceDoc/41458C.pdf; ComponentLink2Description: Package Specification; ComponentLink2URL: http://www.microchip.com/stellent/groups/techpub_sg/documents/packagingspec/en012702.pdf; ComponentLink3Description: URL Link1; ComponentLink3URL: Product URL:http://www.microchip.com/datasheet/PIC16F1527
footprint MCHP-QFN-MR64-7700X7700TP_N (QFN, 64-Leads, Body 9x9mm, Pitch 0.5mm, Thermal Pad 7.7x7.7mm, IPC Medium Density)
footprint MCHP-QFN-MR64-7700X7700TP_L (QFN, 64-Leads, Body 9x9mm, Pitch 0.5mm, Thermal Pad 7.7x7.7mm, IPC High Density)
footprint MCHP-QFN-MR64-7700X7700TP_M (QFN, 64-Leads, Body 9x9mm, Pitch 0.5mm, Thermal Pad 7.7x7.7mm, IPC Low Density)
part A pins: 1 RE1 (io), 2 RE0 (io), 3 RG0 (io), 4 RG1 (io), 5 RG2 (io), 6 RG3 (io), 7 RG5/~{MCLR}/VPP (in), 8 RG4 (io), 11 RF7 (io), 12 RF6 (io), 13 RF5 (io), 14 RF4 (io), 15 RF3 (io), 16 RF2 (io), 17 RF1 (io), 18 RF0 (io), 21 RA3 (io), 22 RA2 (io), 23 RA1 (io), 24 RA0 (io), 27 RA5 (io), 28 RA4 (io), 29 RC1 (io), 30 RC0 (io), 31 RC6 (io), 32 RC7 (io), 33 RC2 (io), 34 RC3 (io), 35 RC4 (io), 36 RC5 (io), 37 RB7 (io), 39 RA7 (io), 40 RA6 (io), 42 RB6 (io), 43 RB5 (io), 44 RB4 (io), 45 RB3 (io), 46 RB2 (io), 47 RB1 (io), 48 RB0 (io), 49 RD7 (io), 50 RD6 (io), 51 RD5 (io), 52 RD4 (io), 53 RD3 (io), 54 RD2 (io), 55 RD1 (io), 58 RD0 (io), 59 RE7 (io), 60 RE6 (io), 61 RE5 (io), 62 RE4 (io), 63 RE3 (io), 64 RE2 (io)
part B pins: 9 VSS (power) "Ground reference.", 10 VDD (power) "Positive supply.", 19 AVDD (power) "Analog positive supply.", 20 AVSS (power) "Analog ground reference.", 25 VSS (power) "Ground reference.", 26 VDD (power) "Positive supply.", 38 VDD (power) "Positive supply.", 41 VSS (power) "Ground reference.", 56 VSS (power) "Ground reference.", 57 VDD (power) "Positive supply.", 65 EP

## PIC16F1527-E/PT
designator U?
Flash Microcontroller with XLP Technology, 20 MHz, 53 I/O, -40 to 125 degC, 64-pin TQFP (PT64), Tray; Manufacturer: Microchip; PartNumber: PIC16F1527-E/PT; # of A/D Channels: 30; Digital Communication: 2 -A/E/USART, 2 -MSSP(SPI/I2C); I/O Pins: 53; Internal Oscillator: 16 MHz, 31 MHz; Max. CPU Speed MHz: 20; Operation Voltage Range: 2.3V - 5.5V; Program Memory KBytes: 28; Program Memory KWords: 16; RAM: 1536; Timers: 6 - 8-bit, 3 - 16-bit; DatasheetVersion: Rev. C; PackageVersion: C04-085B, 12/2012; PackageReference: TQFP-PT64; PackageDescription: 64-Lead Plastic Thin Quad FlatPack, 10 x 10 mm Body, 0.5 mm Pitch; Supplier 1: Digi-Key; Supplier Part Number 1: PIC16F1527-E/PT-ND; Supplier 2: Mouser; Supplier Part Number 2: 579-PIC16F1527-E/PT; Memory Type: Flash; Packing: TRAY; RoHS: TRUE; Mounting Technology: Surface Mount; ComponentLink1Description: Datasheet; ComponentLink1URL: http://ww1.microchip.com/downloads/en/DeviceDoc/41458C.pdf; ComponentLink2Description: Package Specification; ComponentLink2URL: http://www.microchip.com/stellent/groups/techpub_sg/documents/packagingspec/en012702.pdf; ComponentLink3Description: URL Link1; ComponentLink3URL: Product URL:http://www.microchip.com/datasheet/PIC16F1527
footprint MCHP-TQFP-PT64_N (TQFP, 64-Leads, Body 10x10mm, Pitch 0.5mm, IPC Medium Density)
footprint MCHP-TQFP-PT64_L (TQFP, 64-Leads, Body 10x10mm, Pitch 0.5mm, IPC High Density)
footprint MCHP-TQFP-PT64_M (TQFP, 64-Leads, Body 10x10mm, Pitch 0.5mm, IPC Low Density)
part A pins: 1 RE1 (io), 2 RE0 (io), 3 RG0 (io), 4 RG1 (io), 5 RG2 (io), 6 RG3 (io), 7 RG5/~{MCLR}/VPP (in), 8 RG4 (io), 11 RF7 (io), 12 RF6 (io), 13 RF5 (io), 14 RF4 (io), 15 RF3 (io), 16 RF2 (io), 17 RF1 (io), 18 RF0 (io), 21 RA3 (io), 22 RA2 (io), 23 RA1 (io), 24 RA0 (io), 27 RA5 (io), 28 RA4 (io), 29 RC1 (io), 30 RC0 (io), 31 RC6 (io), 32 RC7 (io), 33 RC2 (io), 34 RC3 (io), 35 RC4 (io), 36 RC5 (io), 37 RB7 (io), 39 RA7 (io), 40 RA6 (io), 42 RB6 (io), 43 RB5 (io), 44 RB4 (io), 45 RB3 (io), 46 RB2 (io), 47 RB1 (io), 48 RB0 (io), 49 RD7 (io), 50 RD6 (io), 51 RD5 (io), 52 RD4 (io), 53 RD3 (io), 54 RD2 (io), 55 RD1 (io), 58 RD0 (io), 59 RE7 (io), 60 RE6 (io), 61 RE5 (io), 62 RE4 (io), 63 RE3 (io), 64 RE2 (io)
part B pins: 9 VSS (power) "Ground reference.", 10 VDD (power) "Positive supply.", 19 AVDD (power) "Analog positive supply.", 20 AVSS (power) "Analog ground reference.", 25 VSS (power) "Ground reference.", 26 VDD (power) "Positive supply.", 38 VDD (power) "Positive supply.", 41 VSS (power) "Ground reference.", 56 VSS (power) "Ground reference.", 57 VDD (power) "Positive supply."

## PIC16F1527-I/MR
designator U?
Flash Microcontroller with XLP Technology, 20 MHz, 53 I/O, -40 to 85 degC, 64-pin QFN (MR64), Tube; Manufacturer: Microchip; PartNumber: PIC16F1527-I/MR; # of A/D Channels: 30; Digital Communication: 2 -A/E/USART, 2 -MSSP(SPI/I2C); I/O Pins: 53; Internal Oscillator: 16 MHz, 31 MHz; Max. CPU Speed MHz: 20; Operation Voltage Range: 2.3V - 5.5V; Program Memory KBytes: 28; Program Memory KWords: 16; RAM: 1536; Timers: 6 - 8-bit, 3 - 16-bit; DatasheetVersion: Rev. C; PackageVersion: C04-213A, 04/2013; PackageReference: QFN-MR64; PackageDescription: 64-Lead Plastic Quad Flat, No Lead Package, Body 9 x 9 mm, Pitch 0.5 mm; Supplier 1: Digi-Key; Supplier Part Number 1: PIC16F1527-I/MR-ND; Supplier 2: Farnell; Supplier Part Number 2: 1909426; Supplier 3: Mouser; Supplier Part Number 3: 579-PIC16F1527-I/MR; Memory Type: Flash; Packing: TUBE; RoHS: TRUE; Mounting Technology: Surface Mount; ComponentLink1Description: Datasheet; ComponentLink1URL: http://ww1.microchip.com/downloads/en/DeviceDoc/41458C.pdf; ComponentLink2Description: Package Specification; ComponentLink2URL: http://www.microchip.com/stellent/groups/techpub_sg/documents/packagingspec/en012702.pdf; ComponentLink3Description: URL Link1; ComponentLink3URL: Product URL:http://www.microchip.com/datasheet/PIC16F1527
footprint MCHP-QFN-MR64-7700X7700TP_N (QFN, 64-Leads, Body 9x9mm, Pitch 0.5mm, Thermal Pad 7.7x7.7mm, IPC Medium Density)
footprint MCHP-QFN-MR64-7700X7700TP_L (QFN, 64-Leads, Body 9x9mm, Pitch 0.5mm, Thermal Pad 7.7x7.7mm, IPC High Density)
footprint MCHP-QFN-MR64-7700X7700TP_M (QFN, 64-Leads, Body 9x9mm, Pitch 0.5mm, Thermal Pad 7.7x7.7mm, IPC Low Density)
part A pins: 1 RE1 (io), 2 RE0 (io), 3 RG0 (io), 4 RG1 (io), 5 RG2 (io), 6 RG3 (io), 7 RG5/~{MCLR}/VPP (in), 8 RG4 (io), 11 RF7 (io), 12 RF6 (io), 13 RF5 (io), 14 RF4 (io), 15 RF3 (io), 16 RF2 (io), 17 RF1 (io), 18 RF0 (io), 21 RA3 (io), 22 RA2 (io), 23 RA1 (io), 24 RA0 (io), 27 RA5 (io), 28 RA4 (io), 29 RC1 (io), 30 RC0 (io), 31 RC6 (io), 32 RC7 (io), 33 RC2 (io), 34 RC3 (io), 35 RC4 (io), 36 RC5 (io), 37 RB7 (io), 39 RA7 (io), 40 RA6 (io), 42 RB6 (io), 43 RB5 (io), 44 RB4 (io), 45 RB3 (io), 46 RB2 (io), 47 RB1 (io), 48 RB0 (io), 49 RD7 (io), 50 RD6 (io), 51 RD5 (io), 52 RD4 (io), 53 RD3 (io), 54 RD2 (io), 55 RD1 (io), 58 RD0 (io), 59 RE7 (io), 60 RE6 (io), 61 RE5 (io), 62 RE4 (io), 63 RE3 (io), 64 RE2 (io)
part B pins: 9 VSS (power) "Ground reference.", 10 VDD (power) "Positive supply.", 19 AVDD (power) "Analog positive supply.", 20 AVSS (power) "Analog ground reference.", 25 VSS (power) "Ground reference.", 26 VDD (power) "Positive supply.", 38 VDD (power) "Positive supply.", 41 VSS (power) "Ground reference.", 56 VSS (power) "Ground reference.", 57 VDD (power) "Positive supply.", 65 EP

## PIC16F1527-I/PT
designator U?
Flash Microcontroller with XLP Technology, 20 MHz, 53 I/O, -40 to 85 degC, 64-pin TQFP (PT64), Tray; Manufacturer: Microchip; PartNumber: PIC16F1527-I/PT; # of A/D Channels: 30; Digital Communication: 2 -A/E/USART, 2 -MSSP(SPI/I2C); I/O Pins: 53; Internal Oscillator: 16 MHz, 31 MHz; Max. CPU Speed MHz: 20; Operation Voltage Range: 2.3V - 5.5V; Program Memory KBytes: 28; Program Memory KWords: 16; RAM: 1536; Timers: 6 - 8-bit, 3 - 16-bit; DatasheetVersion: Rev. C; PackageVersion: C04-085B, 12/2012; PackageReference: TQFP-PT64; PackageDescription: 64-Lead Plastic Thin Quad FlatPack, 10 x 10 mm Body, 0.5 mm Pitch; Supplier 1: Digi-Key; Supplier Part Number 1: PIC16F1527-I/PT-ND; Supplier 2: Farnell; Supplier Part Number 2: 1909409; Supplier 3: Newark; Supplier Part Number 3: 13T4723; Supplier 4: Mouser; Supplier Part Number 4: 579-PIC16F1527-I/PT; Memory Type: Flash; Packing: TRAY; RoHS: TRUE; Mounting Technology: Surface Mount; ComponentLink1Description: Datasheet; ComponentLink1URL: http://ww1.microchip.com/downloads/en/DeviceDoc/41458C.pdf; ComponentLink2Description: Package Specification; ComponentLink2URL: http://www.microchip.com/stellent/groups/techpub_sg/documents/packagingspec/en012702.pdf; ComponentLink3Description: URL Link1; ComponentLink3URL: Product URL:http://www.microchip.com/datasheet/PIC16F1527
footprint MCHP-TQFP-PT64_N (TQFP, 64-Leads, Body 10x10mm, Pitch 0.5mm, IPC Medium Density)
footprint MCHP-TQFP-PT64_L (TQFP, 64-Leads, Body 10x10mm, Pitch 0.5mm, IPC High Density)
footprint MCHP-TQFP-PT64_M (TQFP, 64-Leads, Body 10x10mm, Pitch 0.5mm, IPC Low Density)
part A pins: 1 RE1 (io), 2 RE0 (io), 3 RG0 (io), 4 RG1 (io), 5 RG2 (io), 6 RG3 (io), 7 RG5/~{MCLR}/VPP (in), 8 RG4 (io), 11 RF7 (io), 12 RF6 (io), 13 RF5 (io), 14 RF4 (io), 15 RF3 (io), 16 RF2 (io), 17 RF1 (io), 18 RF0 (io), 21 RA3 (io), 22 RA2 (io), 23 RA1 (io), 24 RA0 (io), 27 RA5 (io), 28 RA4 (io), 29 RC1 (io), 30 RC0 (io), 31 RC6 (io), 32 RC7 (io), 33 RC2 (io), 34 RC3 (io), 35 RC4 (io), 36 RC5 (io), 37 RB7 (io), 39 RA7 (io), 40 RA6 (io), 42 RB6 (io), 43 RB5 (io), 44 RB4 (io), 45 RB3 (io), 46 RB2 (io), 47 RB1 (io), 48 RB0 (io), 49 RD7 (io), 50 RD6 (io), 51 RD5 (io), 52 RD4 (io), 53 RD3 (io), 54 RD2 (io), 55 RD1 (io), 58 RD0 (io), 59 RE7 (io), 60 RE6 (io), 61 RE5 (io), 62 RE4 (io), 63 RE3 (io), 64 RE2 (io)
part B pins: 9 VSS (power) "Ground reference.", 10 VDD (power) "Positive supply.", 19 AVDD (power) "Analog positive supply.", 20 AVSS (power) "Analog ground reference.", 25 VSS (power) "Ground reference.", 26 VDD (power) "Positive supply.", 38 VDD (power) "Positive supply.", 41 VSS (power) "Ground reference.", 56 VSS (power) "Ground reference.", 57 VDD (power) "Positive supply."

## PIC16F1527T-I/PT
designator U?
Flash Microcontroller with XLP Technology, 20 MHz, 53 I/O, -40 to 85 degC, 64-pin TQFP (PT64), Tape and Reel; Manufacturer: Microchip; PartNumber: PIC16F1527T-I/PT; # of A/D Channels: 30; Digital Communication: 2 -A/E/USART, 2 -MSSP(SPI/I2C); I/O Pins: 53; Internal Oscillator: 16 MHz, 31 MHz; Max. CPU Speed MHz: 20; Operation Voltage Range: 2.3V - 5.5V; Packing: T/R; Program Memory KBytes: 28; Program Memory KWords: 16; RAM: 1536; Timers: 6 - 8-bit, 3 - 16-bit; DatasheetVersion: Rev. C; PackageVersion: C04-085B, 12/2012; PackageReference: TQFP-PT64; PackageDescription: 64-Lead Plastic Thin Quad FlatPack, 10 x 10 mm Body, 0.5 mm Pitch; Supplier 1: Digi-Key; Supplier Part Number 1: PIC16F1527T-I/PT-ND; Supplier 2: Newark; Supplier Part Number 2: 13T4724; Supplier 3: Mouser; Supplier Part Number 3: 579-PIC16F1527T-I/PT; Memory Type: Flash; RoHS: TRUE; Mounting Technology: Surface Mount; ComponentLink1Description: Datasheet; ComponentLink1URL: http://ww1.microchip.com/downloads/en/DeviceDoc/41458C.pdf; ComponentLink2Description: Package Specification; ComponentLink2URL: http://www.microchip.com/stellent/groups/techpub_sg/documents/packagingspec/en012702.pdf; ComponentLink3Description: URL Link1; ComponentLink3URL: Product URL:http://www.microchip.com/datasheet/PIC16F1527
footprint MCHP-TQFP-PT64_N (TQFP, 64-Leads, Body 10x10mm, Pitch 0.5mm, IPC Medium Density)
footprint MCHP-TQFP-PT64_L (TQFP, 64-Leads, Body 10x10mm, Pitch 0.5mm, IPC High Density)
footprint MCHP-TQFP-PT64_M (TQFP, 64-Leads, Body 10x10mm, Pitch 0.5mm, IPC Low Density)
part A pins: 1 RE1 (io), 2 RE0 (io), 3 RG0 (io), 4 RG1 (io), 5 RG2 (io), 6 RG3 (io), 7 RG5/~{MCLR}/VPP (in), 8 RG4 (io), 11 RF7 (io), 12 RF6 (io), 13 RF5 (io), 14 RF4 (io), 15 RF3 (io), 16 RF2 (io), 17 RF1 (io), 18 RF0 (io), 21 RA3 (io), 22 RA2 (io), 23 RA1 (io), 24 RA0 (io), 27 RA5 (io), 28 RA4 (io), 29 RC1 (io), 30 RC0 (io), 31 RC6 (io), 32 RC7 (io), 33 RC2 (io), 34 RC3 (io), 35 RC4 (io), 36 RC5 (io), 37 RB7 (io), 39 RA7 (io), 40 RA6 (io), 42 RB6 (io), 43 RB5 (io), 44 RB4 (io), 45 RB3 (io), 46 RB2 (io), 47 RB1 (io), 48 RB0 (io), 49 RD7 (io), 50 RD6 (io), 51 RD5 (io), 52 RD4 (io), 53 RD3 (io), 54 RD2 (io), 55 RD1 (io), 58 RD0 (io), 59 RE7 (io), 60 RE6 (io), 61 RE5 (io), 62 RE4 (io), 63 RE3 (io), 64 RE2 (io)
part B pins: 9 VSS (power) "Ground reference.", 10 VDD (power) "Positive supply.", 19 AVDD (power) "Analog positive supply.", 20 AVSS (power) "Analog ground reference.", 25 VSS (power) "Ground reference.", 26 VDD (power) "Positive supply.", 38 VDD (power) "Positive supply.", 41 VSS (power) "Ground reference.", 56 VSS (power) "Ground reference.", 57 VDD (power) "Positive supply."

## PIC16F1704-E/ML
designator U?
8-Bit Advanced Analog Flash Microcontrollers, 4K (x14-Bit words) Program Memory, 512 Bytes SRAM, 12 I/O, Extended Temperature, 16-Pin QFN (ML16), Tube; Manufacturer: Microchip; PartNumber: PIC16F1704-E/ML; VCC Range: 2.3 to 5.5 V; DatasheetVersion: Rev. B; PackageVersion: C04-127B, 04/2013; PackageReference: QFN-ML16; PackageDescription: 16-Lead Plastic Quad Flat No Lead Package, Body 4 x 4 mm, Pitch 0.65 mm; Supplier 1: Digi-Key; Supplier Part Number 1: PIC16F1704-E/ML-ND; Supplier 2: Newark; Supplier Part Number 2: 89W9310; Supplier 3: Mouser; Supplier Part Number 3: 579-PIC16F1704-E/ML; Packing: Tube; Mounting Technology: Surface Mount; ComponentLink1Description: Manufacturer URL; ComponentLink1URL: http://www.microchip.com/; ComponentLink2Description: Datasheet; ComponentLink2URL: http://ww1.microchip.com/downloads/en/DeviceDoc/40001715B.pdf; ComponentLink3Description: Package Specification; ComponentLink3URL: http://www.microchip.com/stellent/groups/techpub_sg/documents/packagingspec/en012702.pdf
footprint MCHP-QFN-ML16_N (QFN, 16-Leads, Body 4x4mm, Pitch 0.65mm, Thermal Pad 2.65x2.65mm, IPC Medium Density)
footprint MCHP-QFN-ML16_L (QFN, 16-Leads, Body 4x4mm, Pitch 0.65mm, Thermal Pad 2.65x2.65mm, IPC High Density)
footprint MCHP-QFN-ML16_M (QFN, 16-Leads, Body 4x4mm, Pitch 0.65mm, Thermal Pad 2.65x2.65mm, IPC Low Density)
pins: 1 RA5 (io), 2 RA4 (io), 3 RA3/~{MCLR}/VPP (in), 4 RC5 (io), 5 RC4 (io), 6 RC3 (io), 7 RC2 (io), 8 RC1 (io), 9 RC0 (io), 10 RA2 (io), 11 RA1/ICSPCLK (io), 12 RA0/ICSPDAT (io), 13 VSS (power) "Ground reference.", 14 NC, 15 NC, 16 VDD (power) "Positive supply.", 17 EP

## PIC16F1704-E/P
designator U?
8-Bit Advanced Analog Flash Microcontrollers, 4K (x14-Bit words) Program Memory, 512 Bytes SRAM, 12 I/O, Extended Temperature, 14-Pin PDIP (P14), Tube; Manufacturer: Microchip; PartNumber: PIC16F1704-E/P; VCC Range: 2.3 to 5.5 V; DatasheetVersion: Rev. B; PackageVersion: C04-005B, 12/2012; PackageReference: PDIP-P14; PackageDescription: 14-Lead Plastic Dual In-Line, 6.6 x 19.18 mm Body, 2.54 mm Pitch; Supplier 1: Digi-Key; Supplier Part Number 1: PIC16F1704-E/P-ND; Supplier 2: Newark; Supplier Part Number 2: 89W9311; Supplier 3: Mouser; Supplier Part Number 3: 579-PIC16F1704-E/P; Packing: Tube; Mounting Technology: Through Hole; ComponentLink1Description: Manufacturer URL; ComponentLink1URL: http://www.microchip.com/; ComponentLink2Description: Datasheet; ComponentLink2URL: http://ww1.microchip.com/downloads/en/DeviceDoc/40001715B.pdf; ComponentLink3Description: Package Specification; ComponentLink3URL: http://www.microchip.com/stellent/groups/techpub_sg/documents/packagingspec/en012702.pdf
footprint MCHP-PDIP-P14 (DIP, 14-Leads, Body 19.177x6.604mm, Pitch 2.54mm)
pins: 1 VDD (power) "Positive supply.", 2 RA5 (io), 3 RA4 (io), 4 VPP/~{MCLR}/RA3 (in), 5 RC5 (io), 6 RC4 (io), 7 RC3 (io), 8 RC2 (io), 9 RC1 (io), 10 RC0 (io), 11 RA2 (io), 12 RA1/ICSPCLK (io), 13 RA0/ICSPDAT (io), 14 VSS (power) "Ground reference."

## PIC16F1704-E/SL
designator U?
8-Bit Advanced Analog Flash Microcontrollers, 4K (x14-Bit words) Program Memory, 512 Bytes SRAM, 12 I/O, Extended Temperature, 14-Pin SOIC (SL14), Tube; Manufacturer: Microchip; PartNumber: PIC16F1704-E/SL; VCC Range: 2.3 to 5.5 V; DatasheetVersion: Rev. B; PackageVersion: C04-065C, 12/2012; PackageReference: SOIC-SL14; PackageDescription: 14-Lead Plastic Small Outline, 8.65 x 3.9 mm Body, 1.27 mm Pitch; Supplier 1: Digi-Key; Supplier Part Number 1: PIC16F1704-E/SL-ND; Supplier 2: Newark; Supplier Part Number 2: 89W9312; Supplier 3: Mouser; Supplier Part Number 3: 579-PIC16F1704-E/SL; Packing: Tube; Mounting Technology: Surface Mount; ComponentLink1Description: Manufacturer URL; ComponentLink1URL: http://www.microchip.com/; ComponentLink2Description: Datasheet; ComponentLink2URL: http://ww1.microchip.com/downloads/en/DeviceDoc/40001715B.pdf; ComponentLink3Description: Package Specification; ComponentLink3URL: http://www.microchip.com/stellent/groups/techpub_sg/documents/packagingspec/en012702.pdf
footprint MCHP-SOIC-SL14_N (SOIC, 14-Leads, Body 8.65x3.9mm, Pitch 1.27mm, IPC Medium Density)
footprint MCHP-SOIC-SL14_L (SOIC, 14-Leads, Body 8.65x3.9mm, Pitch 1.27mm, IPC High Density)
footprint MCHP-SOIC-SL14_M (SOIC, 14-Leads, Body 8.65x3.9mm, Pitch 1.27mm, IPC Low Density)
pins: 1 VDD (power) "Positive supply.", 2 RA5 (io), 3 RA4 (io), 4 VPP/~{MCLR}/RA3 (in), 5 RC5 (io), 6 RC4 (io), 7 RC3 (io), 8 RC2 (io), 9 RC1 (io), 10 RC0 (io), 11 RA2 (io), 12 RA1/ICSPCLK (io), 13 RA0/ICSPDAT (io), 14 VSS (power) "Ground reference."

## PIC16F1704-E/ST
designator U?
8-Bit Advanced Analog Flash Microcontrollers, 4K (x14-Bit words) Program Memory, 512 Bytes SRAM, 12 I/O, Extended Temperature, 14-Pin TSSOP (ST14), Tube; Manufacturer: Microchip; PartNumber: PIC16F1704-E/ST; VCC Range: 2.3 to 5.5 V; DatasheetVersion: Rev. B; PackageVersion: C04-087C, 12/2012; PackageReference: TSSOP-ST14; PackageDescription: 14-Lead Plastic Thin Shrink Small Outline, 5 x 4.4 mm Body, 0.65 mm Pitch; Supplier 1: Digi-Key; Supplier Part Number 1: PIC16F1704-E/ST-ND; Supplier 2: Newark; Supplier Part Number 2: 89W9313; Supplier 3: Mouser; Supplier Part Number 3: 579-PIC16F1704-E/ST; Packing: Tube; Mounting Technology: Surface Mount; ComponentLink1Description: Manufacturer URL; ComponentLink1URL: http://www.microchip.com/; ComponentLink2Description: Datasheet; ComponentLink2URL: http://ww1.microchip.com/downloads/en/DeviceDoc/40001715B.pdf; ComponentLink3Description: Package Specification; ComponentLink3URL: http://www.microchip.com/stellent/groups/techpub_sg/documents/packagingspec/en012702.pdf
footprint MCHP-TSSOP-ST14_N (SOP, 14-Leads, Body 5x4.4mm, Pitch 0.65mm, IPC Medium Density)
footprint MCHP-TSSOP-ST14_L (SOP, 14-Leads, Body 5x4.4mm, Pitch 0.65mm, IPC High Density)
footprint MCHP-TSSOP-ST14_M (SOP, 14-Leads, Body 5x4.4mm, Pitch 0.65mm, IPC Low Density)
pins: 1 VDD (power) "Positive supply.", 2 RA5 (io), 3 RA4 (io), 4 VPP/~{MCLR}/RA3 (in), 5 RC5 (io), 6 RC4 (io), 7 RC3 (io), 8 RC2 (io), 9 RC1 (io), 10 RC0 (io), 11 RA2 (io), 12 RA1/ICSPCLK (io), 13 RA0/ICSPDAT (io), 14 VSS (power) "Ground reference."

## PIC16F1704-I/ML
designator U?
8-Bit Advanced Analog Flash Microcontrollers, 4K (x14-Bit words) Program Memory, 512 Bytes SRAM, 12 I/O, Industrial Temperature, 16-Pin QFN (ML16), Tube; Manufacturer: Microchip; PartNumber: PIC16F1704-I/ML; VCC Range: 2.3 to 5.5 V; DatasheetVersion: Rev. B; PackageVersion: C04-127B, 04/2013; PackageReference: QFN-ML16; PackageDescription: 16-Lead Plastic Quad Flat No Lead Package, Body 4 x 4 mm, Pitch 0.65 mm; Supplier 1: Digi-Key; Supplier Part Number 1: PIC16F1704-I/ML-ND; Supplier 2: Newark; Supplier Part Number 2: 89W9314; Supplier 3: Mouser; Supplier Part Number 3: 579-PIC16F1704-I/ML; Packing: Tube; Mounting Technology: Surface Mount; ComponentLink1Description: Manufacturer URL; ComponentLink1URL: http://www.microchip.com/; ComponentLink2Description: Datasheet; ComponentLink2URL: http://ww1.microchip.com/downloads/en/DeviceDoc/40001715B.pdf; ComponentLink3Description: Package Specification; ComponentLink3URL: http://www.microchip.com/stellent/groups/techpub_sg/documents/packagingspec/en012702.pdf
footprint MCHP-QFN-ML16_N (QFN, 16-Leads, Body 4x4mm, Pitch 0.65mm, Thermal Pad 2.65x2.65mm, IPC Medium Density)
footprint MCHP-QFN-ML16_L (QFN, 16-Leads, Body 4x4mm, Pitch 0.65mm, Thermal Pad 2.65x2.65mm, IPC High Density)
footprint MCHP-QFN-ML16_M (QFN, 16-Leads, Body 4x4mm, Pitch 0.65mm, Thermal Pad 2.65x2.65mm, IPC Low Density)
pins: 1 RA5 (io), 2 RA4 (io), 3 RA3/~{MCLR}/VPP (in), 4 RC5 (io), 5 RC4 (io), 6 RC3 (io), 7 RC2 (io), 8 RC1 (io), 9 RC0 (io), 10 RA2 (io), 11 RA1/ICSPCLK (io), 12 RA0/ICSPDAT (io), 13 VSS (power) "Ground reference.", 14 NC, 15 NC, 16 VDD (power) "Positive supply.", 17 EP

## PIC16F1704-I/P
designator U?
8-Bit Advanced Analog Flash Microcontrollers, 4K (x14-Bit words) Program Memory, 512 Bytes SRAM, 12 I/O, Industrial Temperature, 14-Pin PDIP (P14), Tube; Manufacturer: Microchip; PartNumber: PIC16F1704-I/P; VCC Range: 2.3 to 5.5 V; DatasheetVersion: Rev. B; PackageVersion: C04-005B, 12/2012; PackageReference: PDIP-P14; PackageDescription: 14-Lead Plastic Dual In-Line, 6.6 x 19.18 mm Body, 2.54 mm Pitch; Supplier 1: Digi-Key; Supplier Part Number 1: PIC16F1704-I/P-ND; Supplier 2: Newark; Supplier Part Number 2: 89W9315; Supplier 3: Mouser; Supplier Part Number 3: 579-PIC16F1704-I/P; Packing: Tube; Mounting Technology: Through Hole; ComponentLink1Description: Manufacturer URL; ComponentLink1URL: http://www.microchip.com/; ComponentLink2Description: Datasheet; ComponentLink2URL: http://ww1.microchip.com/downloads/en/DeviceDoc/40001715B.pdf; ComponentLink3Description: Package Specification; ComponentLink3URL: http://www.microchip.com/stellent/groups/techpub_sg/documents/packagingspec/en012702.pdf
footprint MCHP-PDIP-P14 (DIP, 14-Leads, Body 19.177x6.604mm, Pitch 2.54mm)
pins: 1 VDD (power) "Positive supply.", 2 RA5 (io), 3 RA4 (io), 4 VPP/~{MCLR}/RA3 (in), 5 RC5 (io), 6 RC4 (io), 7 RC3 (io), 8 RC2 (io), 9 RC1 (io), 10 RC0 (io), 11 RA2 (io), 12 RA1/ICSPCLK (io), 13 RA0/ICSPDAT (io), 14 VSS (power) "Ground reference."

## PIC16F1704-I/SL
designator U?
8-Bit Advanced Analog Flash Microcontrollers, 4K (x14-Bit words) Program Memory, 512 Bytes SRAM, 12 I/O, Industrial Temperature, 14-Pin SOIC (SL14), Tube; Manufacturer: Microchip; PartNumber: PIC16F1704-I/SL; VCC Range: 2.3 to 5.5 V; DatasheetVersion: Rev. B; PackageVersion: C04-065C, 12/2012; PackageReference: SOIC-SL14; PackageDescription: 14-Lead Plastic Small Outline, 8.65 x 3.9 mm Body, 1.27 mm Pitch; Supplier 1: Digi-Key; Supplier Part Number 1: PIC16F1704-I/SL-ND; Supplier 2: Newark; Supplier Part Number 2: 89W9316; Supplier 3: Mouser; Supplier Part Number 3: 579-PIC16F1704-I/SL; Packing: Tube; Mounting Technology: Surface Mount; ComponentLink1Description: Manufacturer URL; ComponentLink1URL: http://www.microchip.com/; ComponentLink2Description: Datasheet; ComponentLink2URL: http://ww1.microchip.com/downloads/en/DeviceDoc/40001715B.pdf; ComponentLink3Description: Package Specification; ComponentLink3URL: http://www.microchip.com/stellent/groups/techpub_sg/documents/packagingspec/en012702.pdf
footprint MCHP-SOIC-SL14_N (SOIC, 14-Leads, Body 8.65x3.9mm, Pitch 1.27mm, IPC Medium Density)
footprint MCHP-SOIC-SL14_L (SOIC, 14-Leads, Body 8.65x3.9mm, Pitch 1.27mm, IPC High Density)
footprint MCHP-SOIC-SL14_M (SOIC, 14-Leads, Body 8.65x3.9mm, Pitch 1.27mm, IPC Low Density)
pins: 1 VDD (power) "Positive supply.", 2 RA5 (io), 3 RA4 (io), 4 VPP/~{MCLR}/RA3 (in), 5 RC5 (io), 6 RC4 (io), 7 RC3 (io), 8 RC2 (io), 9 RC1 (io), 10 RC0 (io), 11 RA2 (io), 12 RA1/ICSPCLK (io), 13 RA0/ICSPDAT (io), 14 VSS (power) "Ground reference."